# Altium footprint library SOIC127P798X216-8N.PcbLib: 1 footprints
Each footprint in its own frame and in the unit in brackets; x right, y up, seen from the top. Pads: shape width x height; smd on the part's side, far side on the other; paste and mask are expansions set on the pad; w line width, h text height; cw(c..) or ccw(c..) is an arc to the next point about the centre after c.
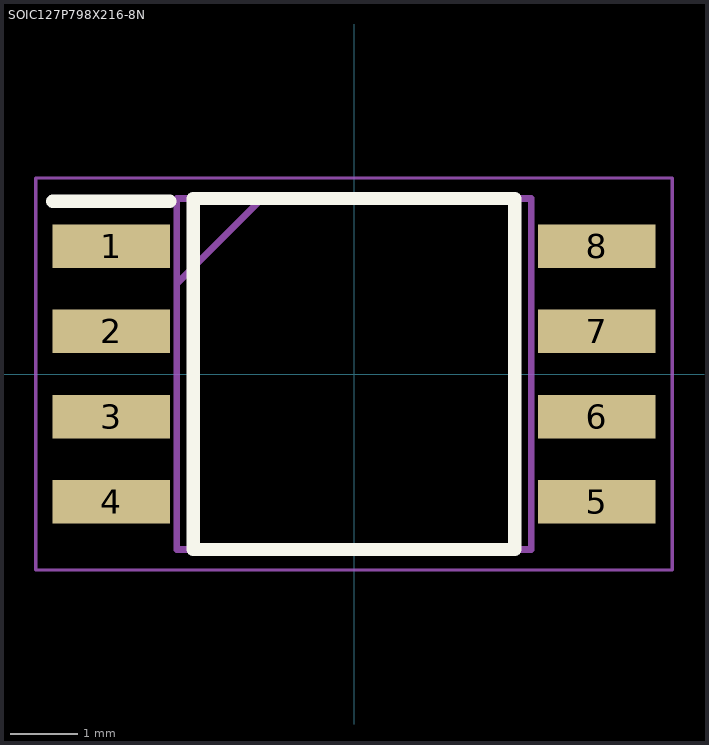
[diagram p0: the footprint, top view; thin cyan lines are the x and y axes]

## SOIC127P798X216-8N [mm]
pads (8):
  rect 1.75x0.65 smd: 1(-3.625,1.905) 2(-3.625,0.635) 3(-3.625,-0.635) 4(-3.625,-1.905) 5(3.625,-1.905) 6(3.625,-0.635) 7(3.625,0.635) 8(3.625,1.905)
Top Overlay:
  lines w0.2: -4.5,2.58 -2.75,2.58 ; -2.4,-2.62 2.4,-2.62 2.4,2.62 -2.4,2.62 -2.4,-2.62
Mechanical 15:
  lines w0.1: -2.645,1.35 -1.375,2.62 ; -2.645,-2.62 2.645,-2.62 2.645,2.62 -2.645,2.62 -2.645,-2.62
Mechanical 20:
  lines w0.05: -4.75,-2.925 4.75,-2.925 4.75,2.925 -4.75,2.925 -4.75,-2.925